# EAGLE library part CC1310 (library CC1310F128RGZ)
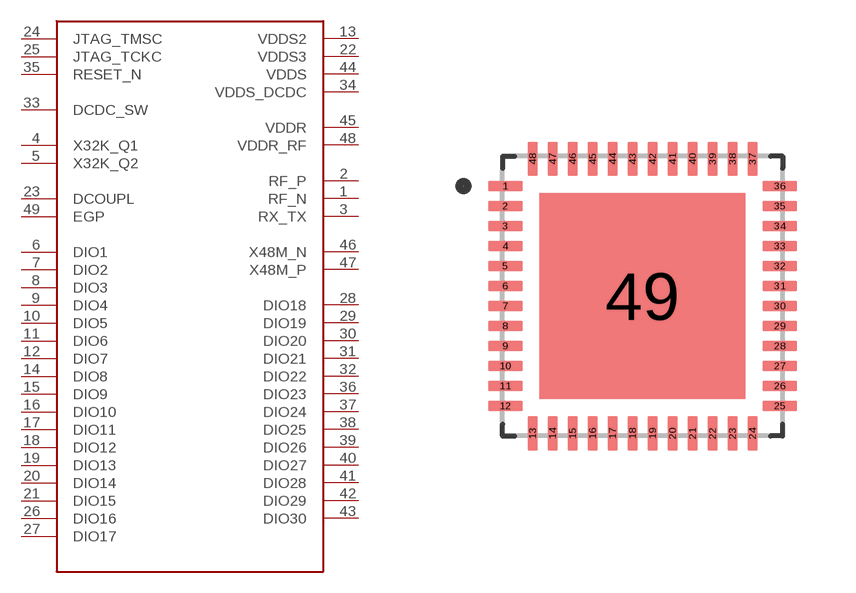
[diagram p1: symbol with the pads of QFN50P700X700X100-49N; footprint QFN50P700X700X100-49N]

Designator prefix -

## CC1310  [QFN50P700X700X100-49N]
1  RF_N
2  RF_P
3  RX_TX
4  X32K_Q1
5  X32K_Q2
6  DIO1
7  DIO2
8  DIO3
9  DIO4
10  DIO5
11  DIO6
12  DIO7
13  VDDS2
14  DIO8
15  DIO9
16  DIO10
17  DIO11
18  DIO12
19  DIO13
20  DIO14
21  DIO15
22  VDDS3
23  DCOUPL
24  JTAG_TMSC
25  JTAG_TCKC
26  DIO16
27  DIO17
28  DIO18
29  DIO19
30  DIO20
31  DIO21
32  DIO22
33  DCDC_SW
34  VDDS_DCDC
35  RESET_N
36  DIO23
37  DIO24
38  DIO25
39  DIO26
40  DIO27
41  DIO28
42  DIO29
43  DIO30
44  VDDS
45  VDDR
46  X48M_N
47  X48M_P
48  VDDR_RF
49  EGP

## Footprint QFN50P700X700X100-49N (pad centres in mm)
smd 0.86 x 0.26: 1 -3.435,2.75; 2 -3.435,2.25; 3 -3.435,1.75; 4 -3.435,1.25; 5 -3.435,0.75; 6 -3.435,0.25; 7 -3.435,-0.25; 8 -3.435,-0.75; 9 -3.435,-1.25; 10 -3.435,-1.75; 11 -3.435,-2.25; 12 -3.435,-2.75; 25 3.435,-2.75; 26 3.435,-2.25; 27 3.435,-1.75; 28 3.435,-1.25; 29 3.435,-0.75; 30 3.435,-0.25; 31 3.435,0.25; 32 3.435,0.75; 33 3.435,1.25; 34 3.435,1.75; 35 3.435,2.25; 36 3.435,2.75
smd 0.26 x 0.86: 13 -2.75,-3.435; 14 -2.25,-3.435; 15 -1.75,-3.435; 16 -1.25,-3.435; 17 -0.75,-3.435; 18 -0.25,-3.435; 19 0.25,-3.435; 20 0.75,-3.435; 21 1.25,-3.435; 22 1.75,-3.435; 23 2.25,-3.435; 24 2.75,-3.435; 37 2.75,3.435; 38 2.25,3.435; 39 1.75,3.435; 40 1.25,3.435; 41 0.75,3.435; 42 0.25,3.435; 43 -0.25,3.435; 44 -0.75,3.435; 45 -1.25,3.435; 46 -1.75,3.435; 47 -2.25,3.435; 48 -2.75,3.435
smd 5.15 x 5.15: 49 0,0